# Altium footprint library MEMS_LIB.PcbLib: 10 footprints
Each footprint in its own frame and in the unit in brackets; x right, y up, seen from the top. Pads: shape width x height; smd on the part's side, far side on the other; paste and mask are expansions set on the pad; w line width, h text height; cw(c..) or ccw(c..) is an arc to the next point about the centre after c.
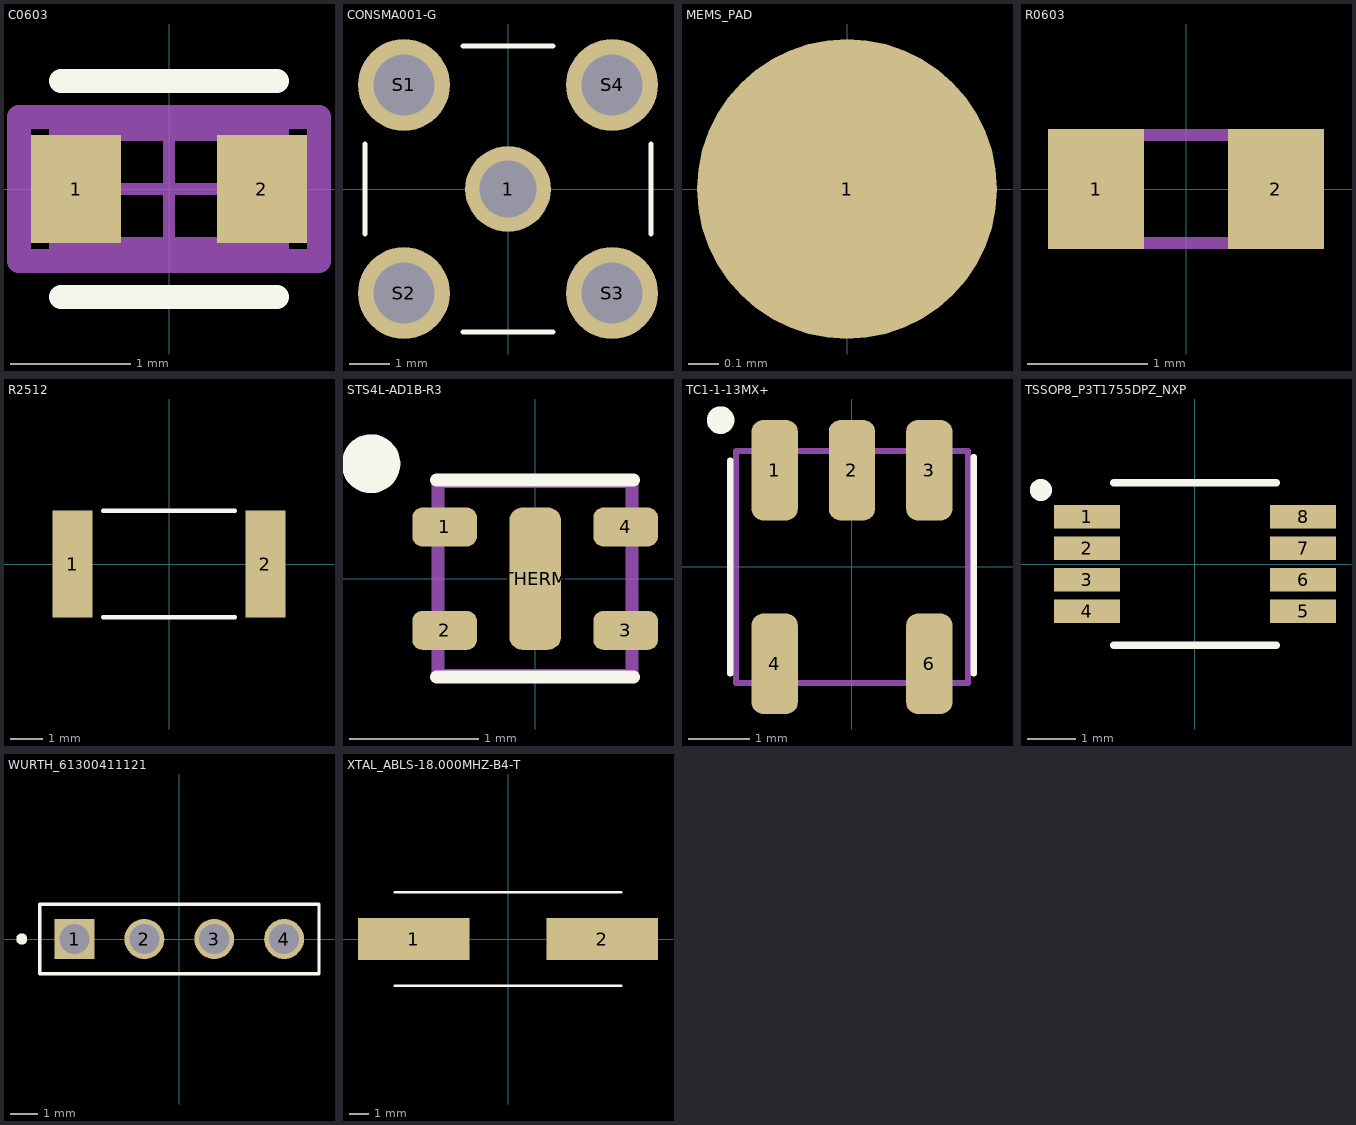
[diagram p0: the footprints below, top view; thin cyan lines are the x and y axes]

## C0603 [mm]
pads (2):
  rect 0.75x0.9 smd paste+0 mask+0: 1(-0.775,0) 2(0.775,0)
Top Overlay:
  lines w0.2: -0.9,-0.9 0.9,-0.9 ; -0.9,0.9 0.9,0.9
Top 3D Body:
  lines w0.2: -0.9,-0.5 0.9,-0.5 0.9,0.5 -0.9,0.5 -0.9,-0.5
Top Assembly:
  lines w0.2: -1.25,-0.6 1.25,-0.6 1.25,0.6 -1.25,0.6 -1.25,-0.6
Top Courtyard:
  lines w0.2: -1.25,-0.6 1.25,-0.6 1.25,0.6 -1.25,0.6 -1.25,-0.6
Top Component Center:
  lines w0.1: -0.5,0 0.5,0 ; 0,-0.5 0,0.5
3D body: height 0.55, standoff 0, extent 0.55,-0.45 0.8,0.45
3D body: height 0.55, standoff 0, extent -0.9,-0.45 -0.65,0.45
3D body: height 0.55, standoff 0, extent -0.65,-0.45 0.55,0.45

## CONSMA001-G [mm]
pads (5):
  round 2.1 hole 1.4: 1(0,0)
  round 2.25 hole 1.5: S1(-2.55,2.55) S2(-2.55,-2.55) S3(2.55,-2.55) S4(2.55,2.55)
Top Overlay:
  lines w0.127: -3.5,-1.105 -3.5,1.105 ; -1.105,-3.5 1.105,-3.5 ; -1.105,3.5 1.105,3.5 ; 3.5,-1.105 3.5,1.105
3D body "step_temp.STEP": height 9.78, standoff -3.81, extent -3.505,-3.505 3.505,3.505

## MEMS_PAD [mm]
pads (1):
  round 1 smd: 1(0,0)

## R0603 [mm]
height 0.55
pads (2):
  rect 0.8x1 smd: 1(-0.75,0) 2(0.75,0)
Mechanical 1:
  lines w0.1: -0.85,-0.45 0.85,-0.45 0.85,0.45 -0.85,0.45 -0.85,-0.45
3D body: height 0.55, standoff 0, extent 0.6,-0.45 0.85,0.45
3D body: height 0.55, standoff 0, extent -0.85,-0.45 -0.6,0.45
3D body: height 0.55, standoff 0, extent -0.6,-0.45 0.6,0.45

## R2512 [mm]
pads (2):
  rect 1.24x3.32 smd: 1(-2.99,0) 2(2.99,0)
Top Overlay:
  lines w0.127: -2.05,-1.65 2.05,-1.65 ; -2.05,1.65 2.05,1.65
3D body "step_temp.STEP": height 0.7, standoff 0, extent -3.15,-1.575 3.15,1.575

## STS4L-AD1B-R3 [mm]
pads (5):
  rrect50% 0.5x0.3 smd: 1(-0.7,0.4) 2(-0.7,-0.4) 3(0.7,-0.4) 4(0.7,0.4)
  rrect50% 0.4x1.1 smd: THERM(0,0)
Top Overlay:
  lines w0.1: -0.762,-0.762 0.762,-0.762 ; -0.762,0.762 0.762,0.762
  lines w0.254: -1.175,0.921 ccw(c-1.27,0.889) -1.17,0.889
Mechanical 1:
  lines w0.1: -0.75,-0.75 0.75,-0.75 0.75,0.75 -0.75,0.75 -0.75,-0.75
3D body: height 0.55, standoff 0, extent -0.75,-0.75 0.75,0.753

## TC1-1-13MX+ [mm]
pads (5):
  rrect50% 0.76x1.65 smd: 1(-1.27,1.59) 2(0,1.59) 3(1.27,1.59) 4(-1.27,-1.59) 6(1.27,-1.59)
Top Overlay:
  circle w0.254: c-2.159,2.413 r0.1
  lines w0.1: -2,-1.75 -2,1.75 ; 2,-1.75 2,1.806
Mechanical 1:
  lines w0.1: -1.905,-1.905 1.905,-1.905 1.905,1.905 -1.905,1.905 -1.905,-1.905
3D body: height 4.06, standoff 0, extent -1.953,-1.905 1.905,1.935

## TSSOP8_P3T1755DPZ_NXP [mm]
pads (8):
  rect 1.356x0.483 smd paste+0 mask+0: 1(-2.228,0.975) 2(-2.228,0.325) 3(-2.228,-0.325) 4(-2.228,-0.975) 5(2.228,-0.975) 6(2.228,-0.325) 7(2.228,0.325) 8(2.228,0.975)
Top Overlay:
  circle w0.254: c-3.175,1.524 r0.1
  lines w0.152: -1.676,-1.676 1.676,-1.676 ; -1.676,1.676 1.676,1.676
3D body "TSSOP8_P3T1755DPZ_NXP.step": height 1.09, standoff 0, extent -2.55,-1.549 2.55,1.549

## WURTH_61300411121 [mm]
pads (4):
  rect 1.45x1.45 / inner round 1.45 / far side rect 1.45x1.45 hole 1.1: 1(-3.81,0)
  round 1.45 hole 1.1: 2(-1.27,0) 3(1.27,0) 4(3.81,0)
Top Overlay:
  circle w0.2: c-5.73,0 r0.1
  lines w0.127: -5.08,-1.27 -5.08,1.27 5.08,1.27 5.08,-1.27 -5.08,-1.27
3D body "step_temp.STEP": height 7.27, standoff -4.27, extent -5.08,-1.27 5.08,1.27

## XTAL_ABLS-18.000MHZ-B4-T [mm]
height 4.2
pads (2):
  rect 5.6x2.1 smd: 1(-4.75,0) 2(4.75,0)
Top Overlay:
  lines w0.127: -5.7,-2.35 5.7,-2.35 ; -5.7,2.35 5.7,2.35
3D body "step_temp.STEP": height 4.2, standoff 0, extent -6.35,-2.35 6.35,2.35